# Altium schematic symbol library MicroUSB3.0.A1.SchLib: 1 symbol
Pins are listed as number, name and electrical type; pins without a type are passive.

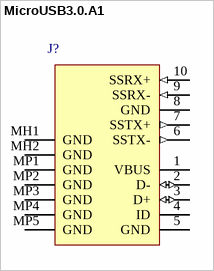
[diagram p0: symbol MicroUSB3.0.A1]

## MicroUSB3.0.A1
designator J?
pins: 1 VBUS (power), 2 D- (io), 3 D+ (io), 4 ID, 5 GND, 6 SSTX- (out), 7 SSTX+ (out), 8 GND, 9 SSRX- (in), 10 SSRX+ (in), MH1 GND, MH2 GND, MP1 GND, MP2 GND, MP3 GND, MP4 GND, MP5 GND